# Altium footprint library pinheader_P60R2.PcbLib: 1 footprints
Each footprint in its own frame and in the unit in brackets; x right, y up, seen from the top. Pads: shape width x height; smd on the part's side, far side on the other; paste and mask are expansions set on the pad; w line width, h text height; cw(c..) or ccw(c..) is an arc to the next point about the centre after c.
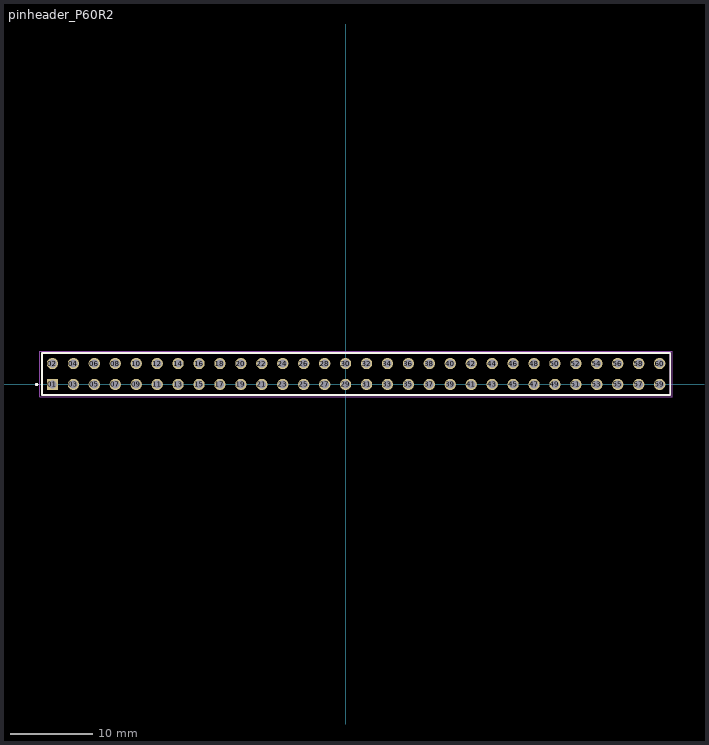
[diagram p0: the footprint, top view; thin cyan lines are the x and y axes]

## pinheader_P60R2 [mm]
pads (60):
  rect 1.37x1.37 hole 1.02: 01(-35.56,0)
  round 1.37 hole 1.02: 02(-35.56,2.54) 03(-33.02,0) 04(-33.02,2.54) 05(-30.48,0) 06(-30.48,2.54) 07(-27.94,0) 08(-27.94,2.54) 09(-25.4,0) 10(-25.4,2.54) 11(-22.86,0) 12(-22.86,2.54) 13(-20.32,0) 14(-20.32,2.54) 15(-17.78,0) 16(-17.78,2.54) 17(-15.24,0) 18(-15.24,2.54) 19(-12.7,0) 20(-12.7,2.54) 21(-10.16,0) 22(-10.16,2.54) 23(-7.62,0) 24(-7.62,2.54) 25(-5.08,0) 26(-5.08,2.54) 27(-2.54,0) 28(-2.54,2.54) 29(0,0) 30(0,2.54) 31(2.54,0) 32(2.54,2.54) 33(5.08,0) 34(5.08,2.54) 35(7.62,0) 36(7.62,2.54) 37(10.16,0) 38(10.16,2.54) 39(12.7,0) 40(12.7,2.54) 41(15.24,0) 42(15.24,2.54) 43(17.78,0) 44(17.78,2.54) 45(20.32,0) 46(20.32,2.54) 47(22.86,0) 48(22.86,2.54) 49(25.4,0) 50(25.4,2.54) 51(27.94,0) 52(27.94,2.54) 53(30.48,0) 54(30.48,2.54) 55(33.02,0) 56(33.02,2.54) 57(35.56,0) 58(35.56,2.54) 59(38.1,0) 60(38.1,2.54)
Top Overlay:
  circle w0.2: c-37.48,0 r0.1
  lines w0.2: -36.83,-1.27 39.37,-1.27 39.37,3.81 -36.83,3.81 -36.83,-1.27
Top 3D Body:
  circle w0.2: c-37.48,0 r0.1
  lines w0.1: -36.83,-1.27 39.37,-1.27 39.37,3.81 -36.83,3.81 -36.83,-1.27
Top Courtyard:
  lines w0.05: -37.08,-1.52 39.62,-1.52 39.62,4.06 -37.08,4.06 -37.08,-1.52
3D body "MTSW-130-11-G-D-460.stp": height 14.22, standoff -9.4, extent -36.83,-1.27 39.37,3.81